# Altium footprint library MZBT_PcpLibrary.PcbLib: 144 footprints (part 2 of 9)
Each footprint in its own frame and in the unit in brackets; x right, y up, seen from the top. Pads: shape width x height; smd on the part's side, far side on the other; paste and mask are expansions set on the pad; w line width, h text height; cw(c..) or ccw(c..) is an arc to the next point about the centre after c.
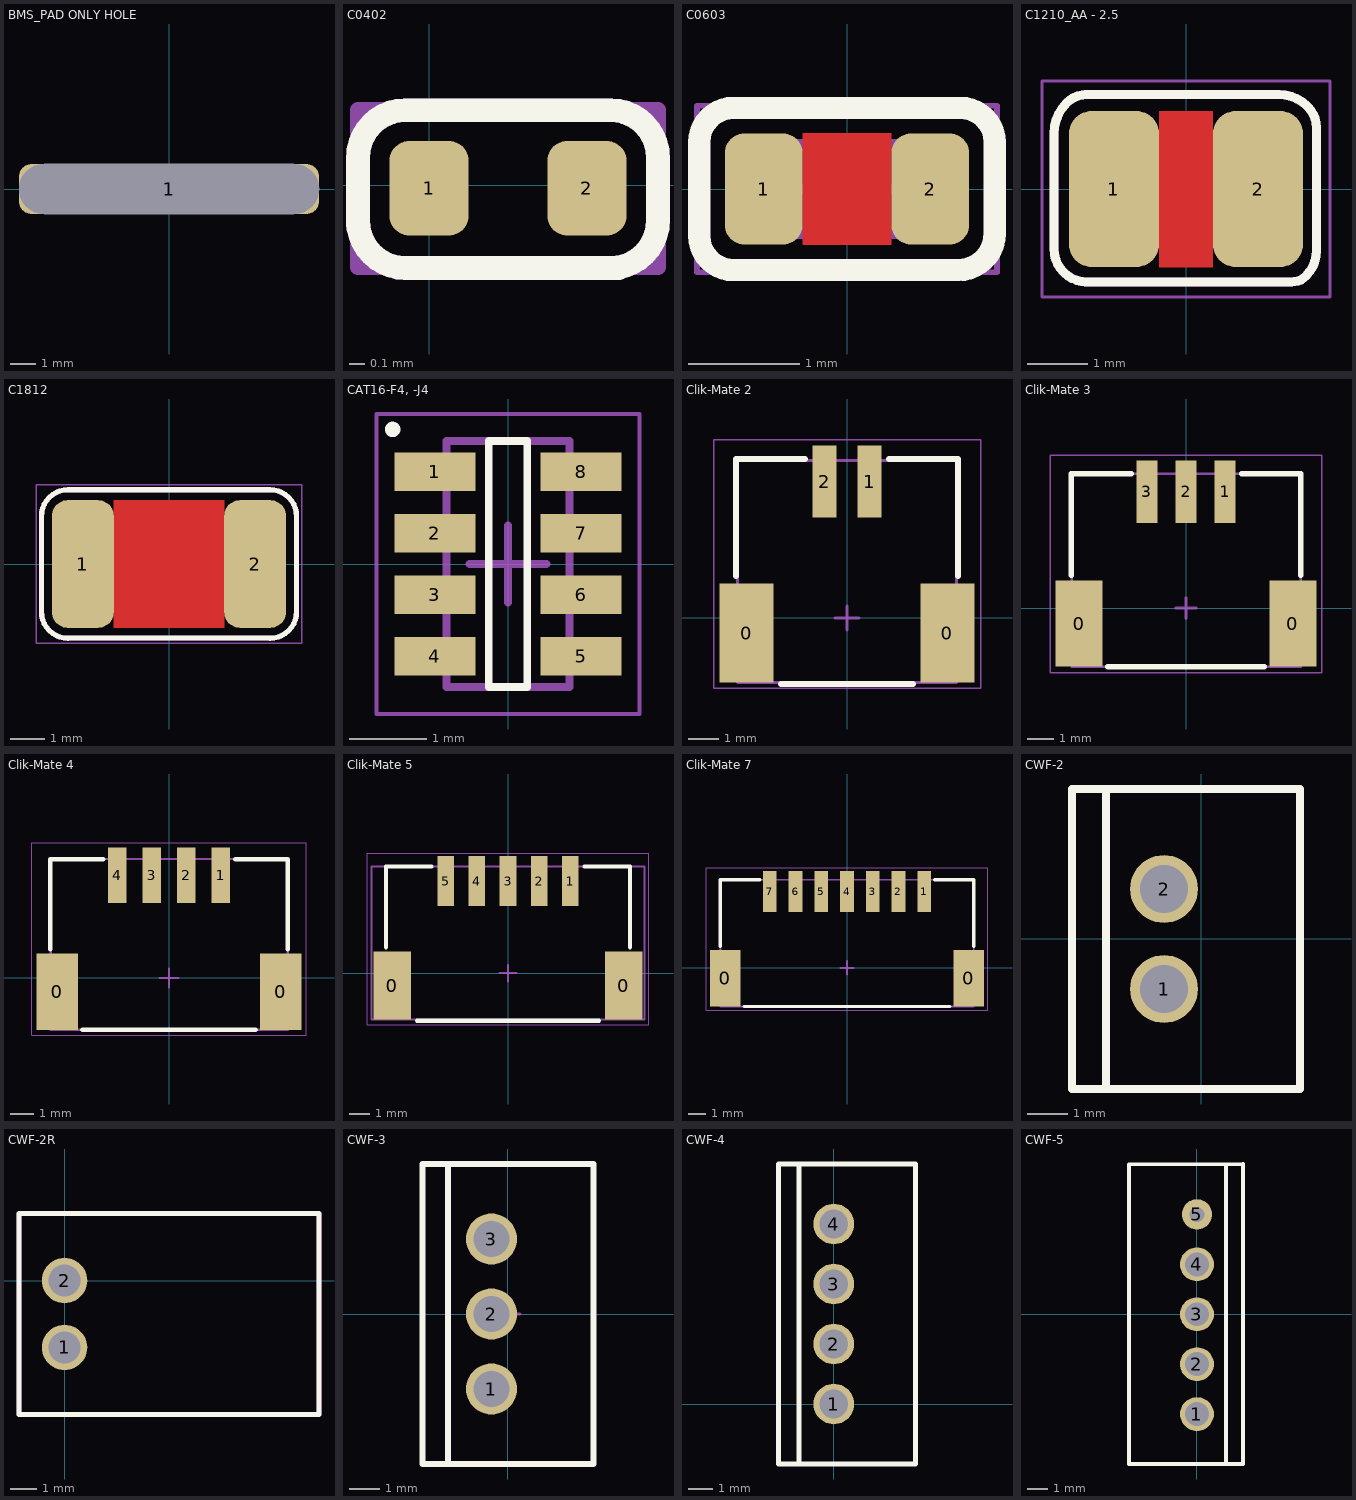
[diagram p1: the footprints below, top view; thin cyan lines are the x and y axes]

## BMS_PAD ONLY HOLE [mm]
pads (1):
  rrect50% 12x2 hole 2 slot 12 at 0 deg: 1(0,0)

## C0402 [mm]
pads (2):
  rrect50% 0.5x0.6 smd: 1(0,-0.02) 2(1,-0.02)
Top Overlay:
  lines w0.15: -0.45,-0.25 -0.45,0.175 cw(c-0.15,0.175) -0.15,0.475 1.15,0.475 cw(c1.15,0.175) 1.45,0.175 1.45,-0.225 cw(c1.15,-0.225) 1.15,-0.525 ; -0.45,-0.225 ccw(c-0.15,-0.225) -0.15,-0.525 1.2,-0.525
Top Comment:
  text ".Comment" at -0.336,-0.399 h0.6
Top Designator (Mech9):
  text ".Designator" at -0.851,0.118 h0.8
Top Component Outline:
  lines w0.15: -0.45,-0.25 -0.45,0.175 cw(c-0.15,0.175) -0.15,0.475 1.15,0.475 cw(c1.15,0.175) 1.45,0.175 1.45,-0.225 cw(c1.15,-0.225) 1.15,-0.525 ; -0.45,-0.225 ccw(c-0.15,-0.225) -0.15,-0.525 1.2,-0.525
Top Courtyard:
  lines w0.1: -0.45,-0.52 1.45,-0.52 1.45,0.476 -0.45,0.476 -0.45,-0.52
3D body "User Library-Chip Cap_MLCC_0402 (1005).step": height 0.5, standoff 0, extent 0,-0.275 1,0.225

## C0603 [mm]
height 0.9
pads (2):
  rrect50% 0.7x1 smd: 1(-0.75,0) 2(0.75,0)
Top Layer:
  pour cut-out: -0.4,0.5 0.4,0.5 0.4,-0.5 -0.4,-0.5
Top Overlay:
  lines w0.2: -1.33,-0.42 ccw(c-1.02,-0.42) -1.02,-0.73 1,-0.73 ccw(c1,-0.4) 1.33,-0.4 1.33,0.42 ccw(c1.02,0.42) 1.02,0.73 -1.02,0.73 ccw(c-1.02,0.42) -1.33,0.42 -1.33,-0.42
Top Comment:
  text ".Comment" at -0.861,-0.374 h0.6
Top Designator (Mech9):
  text ".Designator" at -1.376,0.143 h0.8
Top Component Outline:
  lines w0.1: -0.8,-0.4 -0.8,0.4 0.8,0.4 0.8,-0.4 -0.8,-0.4
Top Courtyard:
  lines w0.05: -1.35,-0.75 -1.35,0.75 1.35,0.75 1.35,-0.75 -1.35,-0.75
  lines w0.1: -0.375,0 0.375,0 ; 0,-0.4 0,0.4
3D body "CAPC0603.STEP": height 0.9, standoff 0, extent -0.8,-0.4 0.8,0.4

## C1210_AA - 2.5 [mm]
height 2.5
pads (2):
  rrect50% 1.5x2.6 smd: 1(-1.2,0) 2(1.2,0)
Top Layer:
  pour cut-out: -0.45,1.3 0.45,1.3 0.45,-1.3 -0.45,-1.3
Top Overlay:
  lines w0.15: -2.2,-1 ccw(c-1.657,-1) -2.041,-1.384 -2.034,-1.391 ccw(c-1.65,-1.007) -1.65,-1.55 ; -2.2,-0.975 -2.2,0.925 cw(c-1.476,0.925) -1.988,1.437 cw(c-1.655,1.104) -1.655,1.575 ; -1.675,1.575 1.55,1.575 cw(c1.55,0.911) 2.019,1.381 2.034,1.366 cw(c1.692,1.025) 2.175,1.025 2.175,-1.028 cw(c1.578,-1.028) 2,-1.45 cw(c1.759,-1.209) 1.759,-1.55 -1.575,-1.55 ; -1.673,-1.55 -1.55,-1.55
Top Comment:
  text ".Comment" at -0.861,-0.374 h0.6
Top Designator (Mech9):
  text ".Designator" at -1.376,0.143 h0.8
Top Component Outline:
  lines w0.15: -2.2,-1 ccw(c-1.657,-1) -2.041,-1.384 -2.034,-1.391 ccw(c-1.65,-1.007) -1.65,-1.55 ; -2.2,-0.975 -2.2,0.925 cw(c-1.476,0.925) -1.988,1.437 cw(c-1.655,1.104) -1.655,1.575 ; -1.675,1.575 1.55,1.575 cw(c1.55,0.911) 2.019,1.381 2.034,1.366 cw(c1.692,1.025) 2.175,1.025 2.175,-1.028 cw(c1.578,-1.028) 2,-1.45 cw(c1.759,-1.209) 1.759,-1.55 -1.575,-1.55 ; -1.673,-1.55 -1.55,-1.55
Top Courtyard:
  lines w0.05: -2.4,-1.8 -2.4,1.8 2.4,1.8 2.4,-1.8 -2.4,-1.8
3D body "GRM32ER71E226ME15L.STEP": height 2.5, standoff 0, extent -1.6,-1.25 1.6,1.25

## C1812 [mm]
height 2.5
pads (2):
  rrect50% 1.8x3.7 smd: 1(-2.5,0) 2(2.5,0)
Top Layer:
  pour cut-out: -1.6,1.85 1.6,1.85 1.6,-1.85 -1.6,-1.85
Top Overlay:
  lines w0.15: -2.931,-2.15 2.931,-2.15 ; -2.927,-2.154 cw(c-2.927,-1.381) -3.7,-1.381 -3.7,1.381 ; 2.927,-2.154 ccw(c2.927,-1.381) 3.7,-1.381 3.7,1.381 ccw(c2.927,1.381) 2.927,2.154 -2.927,2.154 ccw(c-2.927,1.381) -3.7,1.381 ; -3.7,1.381 -3.7,1.381
Top Comment:
  text ".Comment" at -0.861,-0.374 h0.6
Top Designator (Mech9):
  text ".Designator" at -1.376,0.143 h0.8
Top Component Outline:
  lines w0.15: -2.931,-2.15 2.931,-2.15 ; -2.927,-2.154 cw(c-2.927,-1.381) -3.7,-1.381 -3.7,1.381 ; 2.927,-2.154 ccw(c2.927,-1.381) 3.7,-1.381 3.7,1.381 ccw(c2.927,1.381) 2.927,2.154 -2.927,2.154 ccw(c-2.927,1.381) -3.7,1.381 ; -3.7,1.381 -3.7,1.381
Top Courtyard:
  lines w0.05: -3.85,-2.3 3.85,-2.3 3.85,2.3 -3.85,2.3 -3.85,-2.3
3D body "User Library-cap_1812_low.STEP": height 1.5, standoff 0, extent -2.3,-1.6 2.3,1.6

## CAT16-F4, -J4 [mm] "x4 Resistors"
height 0.6
pads (8):
  rect 1.05x0.5 smd: 1(-0.95,1.2) 2(-0.95,0.4) 3(-0.95,-0.4) 4(-0.95,-1.2) 5(0.95,-1.2) 6(0.95,-0.4) 7(0.95,0.4) 8(0.95,1.2)
Top Overlay:
  circle w0.1: c-1.5,1.75 r0.05
  lines w0.102: -0.25,-1.6 0.25,-1.6 0.25,1.6 -0.25,1.6 -0.25,-1.6
Top Comment:
  text ".Comment" at -0.861,-0.374 h0.6
Top Designator (Mech9):
  text ".Designator" at -1.376,0.143 h0.8
Top Component Outline:
  lines w0.1: -0.8,-1.6 0.8,-1.6 0.8,1.6 -0.8,1.6 -0.8,-1.6
Top Courtyard:
  lines w0.05: -1.71,-1.95 1.71,-1.95 1.71,1.95 -1.71,1.95 -1.71,-1.95
  lines w0.1: -0.5,0 0.5,0 ; 0,-0.5 0,0.5
3D body "R0603x4.STEP": height 0.5, standoff 0, extent -0.8,-1.6 0.8,1.6

## Clik-Mate 2 [mm]
pads (4):
  rect 1.8x3.3 smd: 0(-3.35,-0.5) 0(3.35,-0.5)
  rect 0.8x2.4 smd: 1(0.75,4.55) 2(-0.75,4.55)
Top Overlay:
  lines w0.2: -3.7,1.4 -3.7,5.3 -1.4,5.3 ; -2.2,-2.2 2.2,-2.2 ; 1.4,5.3 3.7,5.3 3.7,1.4
Top Comment:
  text ".Comment" at -2.189,-0.952 h1.52
Top Designator (Mech9):
  text ".Designator" at -2.617,0.272 h1.52
Top Component Outline:
  lines w0.1: -3.65,-2.15 3.65,-2.15 3.65,5.25 -3.65,5.25 -3.65,-2.15
Top Courtyard:
  lines w0.05: -4.45,-2.35 4.45,-2.35 4.45,5.95 -4.45,5.95 -4.45,-2.35
  lines w0.1: -0.4,0 0.4,0 ; 0,-0.4 0,0.4
3D body "Click-Mate_2.stp": height 7.58, standoff 0.28, extent -3.65,-2.1 3.65,5.3

## Clik-Mate 3 [mm] "5054050370"
pads (5):
  rect 1.8x3.3 smd: 0(-4.1,-0.6) 0(4.1,-0.6)
  rect 0.8x2.4 smd: 1(1.5,4.45) 2(0,4.45) 3(-1.5,4.45)
Top Overlay:
  lines w0.2: -4.4,1.25 -4.4,5.15 -2.1,5.15 ; -3,-2.25 3,-2.25 ; 2.125,5.15 4.4,5.15 4.4,1.25
Top Comment:
  text ".Comment" at -2.189,-0.952 h1.52
Top Designator (Mech9):
  text ".Designator" at -2.617,0.272 h1.52
Top Component Outline:
  lines w0.1: -4.375,-2.25 4.4,-2.25 4.4,5.15 -4.375,5.15 -4.375,-2.25
Top Courtyard:
  lines w0.05: -5.2,-2.475 5.2,-2.475 5.2,5.85 -5.2,5.85 -5.2,-2.475
  lines w0.1: -0.4,0 0.4,0 ; 0,-0.4 0,0.4
3D body "click-mate 3.stp": height 7.28, standoff -0.02, extent -4.4,-2.25 4.4,5.15

## Clik-Mate 4 [mm] "5054050470"
pads (6):
  rect 1.8x3.3 smd: 0(-4.85,-0.6) 0(4.85,-0.6)
  rect 0.8x2.4 smd: 1(2.25,4.45) 2(0.75,4.45) 3(-0.75,4.45) 4(-2.25,4.45)
Top Overlay:
  lines w0.2: -5.15,1.25 -5.15,5.15 -2.85,5.15 ; -3.75,-2.25 3.75,-2.25 ; 2.875,5.15 5.15,5.15 5.15,1.25
Top Comment:
  text ".Comment" at -2.189,-0.952 h1.52
Top Designator (Mech9):
  text ".Designator" at -2.617,0.272 h1.52
Top Component Outline:
  lines w0.1: -5.125,-2.25 5.15,-2.25 5.15,5.15 -5.125,5.15 -5.125,-2.25
Top Courtyard:
  lines w0.05: -5.95,-2.475 5.95,-2.475 5.95,5.85 -5.95,5.85 -5.95,-2.475
  lines w0.1: -0.4,0 0.4,0 ; 0,-0.4 0,0.4
3D body "Clik-Mate 4.stp": height 7.28, standoff -0.02, extent -5.15,-2.25 5.15,5.15

## Clik-Mate 5 [mm] "5054050670"
pads (7):
  rect 1.8x3.3 smd: 0(-5.6,-0.6) 0(5.6,-0.6)
  rect 0.8x2.4 smd: 1(3,4.45) 2(1.5,4.45) 3(0,4.45) 4(-1.5,4.45) 5(-3,4.45)
Top Overlay:
  lines w0.2: -5.9,1.25 -5.9,5.15 -3.7,5.15 ; -4.4,-2.3 4.4,-2.3 ; 3.7,5.15 5.9,5.15 5.9,1.25
Top Comment:
  text ".Comment" at -2.189,-0.952 h1.52
Top Designator (Mech9):
  text ".Designator" at -2.617,0.272 h1.52
Top Component Outline:
  lines w0.1: -6.6,-2.25 6.6,-2.25 6.6,5.15 -6.6,5.15 -6.6,-2.25
Top Courtyard:
  lines w0.05: -6.8,-2.5 -6.8,5.8 6.8,5.8 6.8,-2.5 -6.8,-2.5
  lines w0.1: -0.4,0 0.4,0 ; 0,-0.4 0,0.4
3D body "2132250510.stp": height 7.28, standoff -0.02, extent -5.9,-2.2 5.9,5.2

## Clik-Mate 7 [mm] "505405-0770"
pads (9):
  rect 1.8x3.3 smd: 0(-7.1,-0.6) 0(7.1,-0.6)
  rect 0.8x2.4 smd: 1(4.5,4.45) 2(3,4.45) 3(1.5,4.45) 4(0,4.45) 5(-1.5,4.45) 6(-3,4.45) 7(-4.5,4.45)
Top Overlay:
  lines w0.2: -7.4,1.25 -7.4,5.15 -5.1,5.15 ; -6,-2.25 6,-2.25 ; 5.125,5.15 7.4,5.15 7.4,1.25
Top Comment:
  text ".Comment" at -2.189,-0.952 h1.52
Top Designator (Mech9):
  text ".Designator" at -2.617,0.272 h1.52
Top Component Outline:
  lines w0.1: -7.375,-2.25 -7.375,5.15 7.4,5.15 7.4,-2.25 -7.375,-2.25
Top Courtyard:
  lines w0.05: -8.2,-2.475 -8.2,5.85 8.2,5.85 8.2,-2.475 -8.2,-2.475
  lines w0.1: -0.4,0 0.4,0 ; 0,-0.4 0,0.4
3D body "Clik-Mate 7.stp": height 7.28, standoff -0.02, extent -7.4,-2.25 7.4,5.15

## CWF-2 [mm]
pads (2):
  round 1.7 hole 1.2: 1(-0.925,-1.25) 2(-0.925,1.25)
Top Overlay:
  lines w0.2: -2.375,-3.75 -2.375,3.75 ; -3.225,-3.75 -3.225,3.75 2.475,3.75 2.475,-3.75 -3.225,-3.75
Top Comment:
  text ".Comment" at -2.189,-0.952 h1.52
Top Designator (Mech9):
  text ".Designator" at -2.617,0.272 h1.52
Top Component Outline:
  lines w0.15: -2.375,-3.75 -2.375,3.75 ; -3.225,-3.75 2.475,-3.75 2.475,3.75 -3.225,3.75 -3.225,-3.75
3D body "CWF_2_V.STEP": height 7.7, standoff -1, extent -3.175,-3.7 2.525,3.8

## CWF-2R [mm]
pads (2):
  round 1.7 hole 1.2: 1(0,-2.5) 2(0,0)
Top Overlay:
  lines w0.2: -1.7,-5 9.5,-5 9.5,2.5 -1.7,2.5 -1.7,-5
Top Comment:
  text ".Comment" at 2.236,-2.152 h1.52
Top Designator (Mech9):
  text ".Designator" at 1.808,-0.928 h1.52
Top Component Outline:
  lines w0.2: -1.7,-5 -1.7,2.5 9.5,2.5 9.5,-5 -1.7,-5
3D body "CWF_2_H.STEP": height 5.7, standoff -1.5, extent -1.55,-4.975 9.35,2.525

## CWF-3 [mm]
pads (3):
  round 1.7 hole 1.2: 1(-0.55,-2.5) 2(-0.55,0) 3(-0.55,2.5)
Top Overlay:
  lines w0.2: -2,-5 -2,5 ; -2.85,-5 2.85,-5 2.85,5 -2.85,5 -2.85,-5
Top Comment:
  text ".Comment" at -2.189,-0.952 h1.52
Top Designator (Mech9):
  text ".Designator" at -2.617,0.272 h1.52
Top Courtyard:
  lines w0.1: -0.4,0 0.4,0 ; 0,-0.4 0,0.4
  lines w0.102: -2.85,-5 2.85,-5 2.85,5 -2.85,5 -2.85,-5
3D body "CWF_3_V.STEP": height 7.7, standoff -1, extent -2.9,-5 2.8,5

## CWF-4 [mm]
pads (4):
  round 1.7 hole 1.2: 1(0,0) 2(0,2.5) 3(0,5) 4(0,7.5)
Top Overlay:
  lines w0.2: -1.45,-2.5 -1.45,10 ; -2.3,-2.5 3.4,-2.5 3.4,10 -2.3,10 -2.3,-2.5
Top Comment:
  text ".Comment" at -1.589,2.848 h1.52
Top Designator (Mech9):
  text ".Designator" at -2.017,4.072 h1.52
Top Courtyard:
  lines w0.1: -0.4,0 0.4,0 ; 0,-0.4 0,0.4
  lines w0.102: -2.3,-2.5 3.4,-2.5 3.4,10 -2.3,10 -2.3,-2.5
3D body "CWF_4_V.STEP": height 7.7, standoff -1, extent -2.25,-2.55 3.45,9.95

## CWF-5 [mm]
pads (5):
  round 1.7 hole 1.2: 1(0,-5) 2(0,-2.5) 3(0,0) 4(0,2.5)
  round 1.524 hole 0.762: 5(0,5)
Top Overlay:
  lines w0.2: 1.45,-7.5 1.45,6.9 1.45,7.5 ; -3.4,-7.5 2.3,-7.5 2.3,6.9 2.3,7.525 -3.4,7.5 -3.4,6.9 -3.4,-7.5
Top Comment:
  text ".Comment" at -2.789,-0.902 h1.52
Top Designator (Mech9):
  text ".Designator" at -3.217,0.322 h1.52
Top Courtyard:
  lines w0.1: -0.4,0 0.4,0 ; 0,-0.4 0,0.4
  lines w0.102: -3.4,-7.5 2.3,-7.5 2.3,7.525 -3.4,7.525 -3.4,-7.5
3D body "User Library-DS1069-5 CWF-5.step": height 7, standoff -3.5, extent -3.45,-7.5 2.3,7.5